# Altium footprint library STM32F4.PcbLib: 40 footprints (part 2 of 3)
Each footprint in its own frame and in the unit in brackets; x right, y up, seen from the top. Pads: shape width x height; smd on the part's side, far side on the other; paste and mask are expansions set on the pad; w line width, h text height; cw(c..) or ccw(c..) is an arc to the next point about the centre after c.
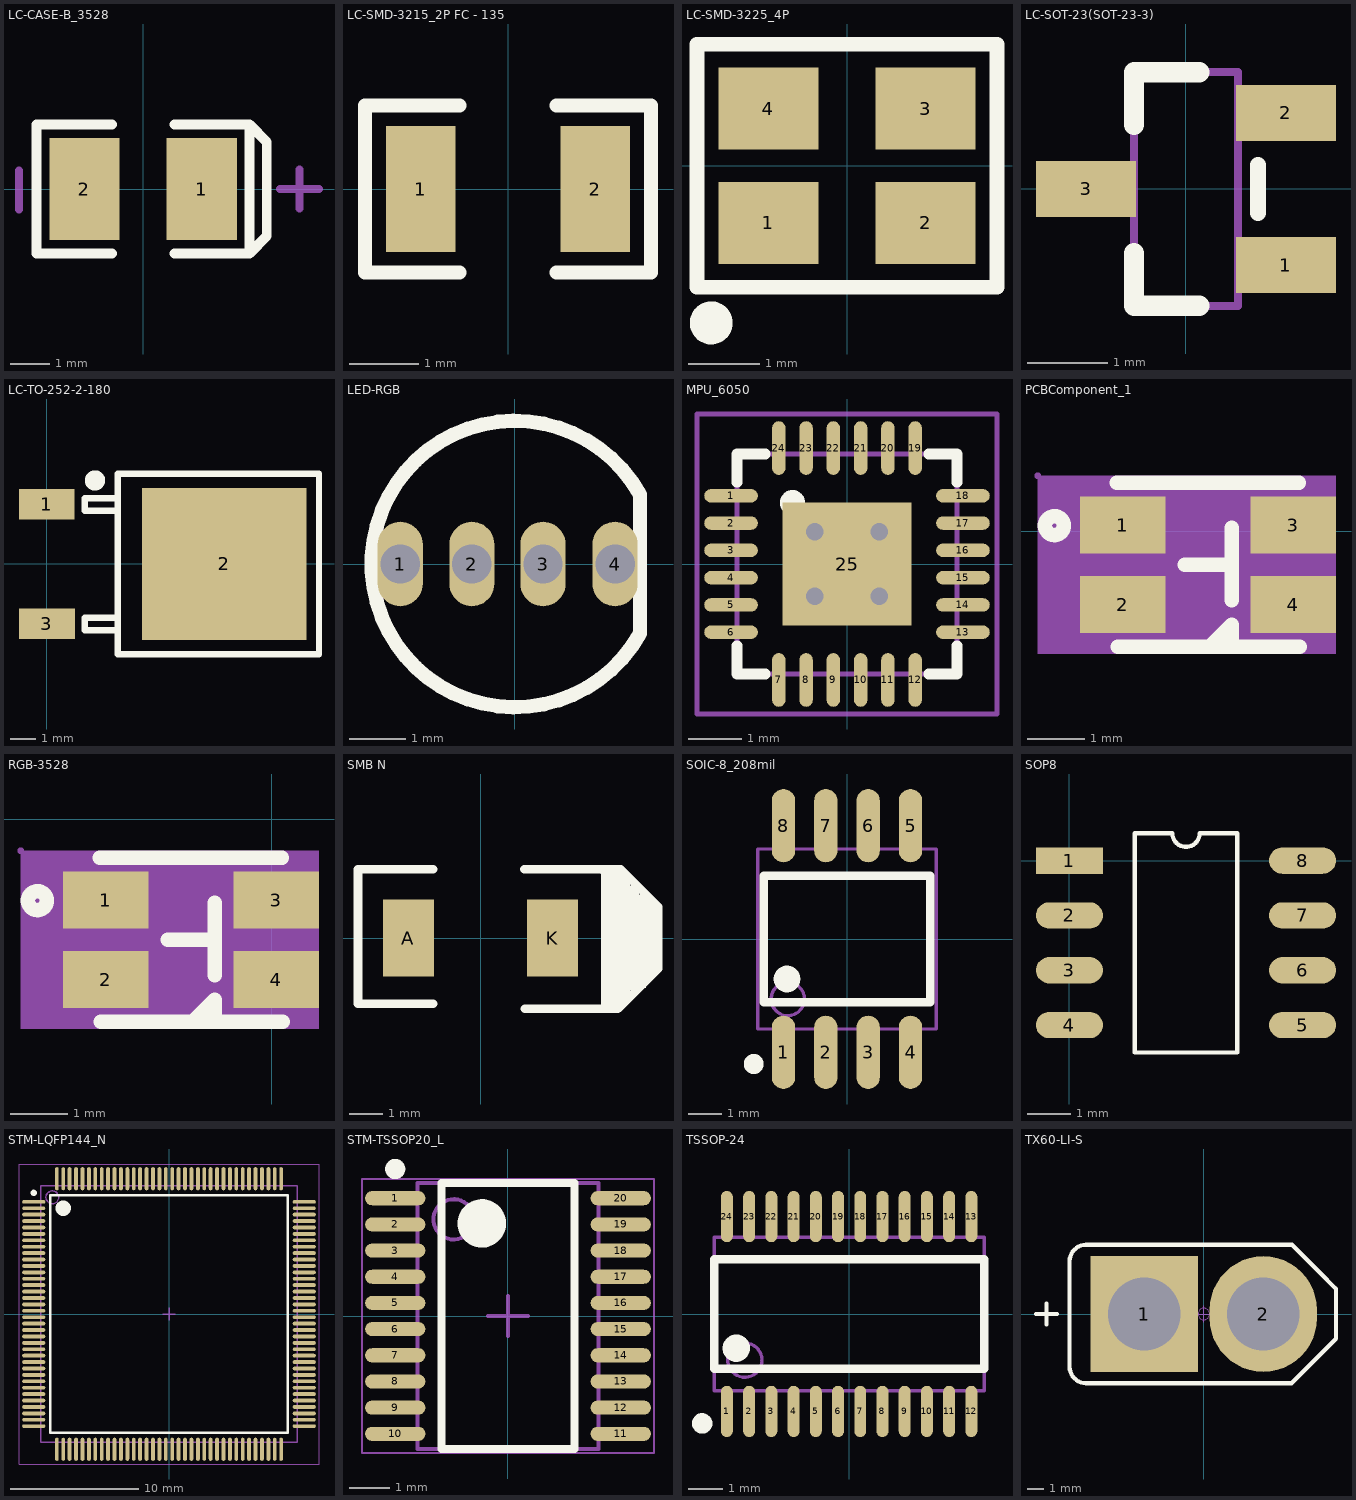
[diagram p1: the footprints below, top view; thin cyan lines are the x and y axes]

## LC-CASE-B_3528 [mm]
pads (2):
  rect 1.8x2.6 smd: 1(1.5,0) 2(-1.5,0)
Top Overlay:
  lines w0.254: -0.8,-1.65 -2.727,-1.65 -2.727,1.65 -0.8,1.65 ; 0.8,-1.65 2.727,-1.65 ; 0.8,1.65 2.727,1.65 ; 2.727,-1.65 2.727,1.65 ; 2.727,-1.65 3.163,-1.2 3.163,1.2 2.727,1.65
Mechanical 15:
  lines w0.203: -3.175,-0.525 -3.175,0.475 ; 3.5,0 4.5,0 ; 4,-0.5 4,0.5
3D body "User Library-AVX_BCASE.STEP": height 2.03, standoff 0, extent -1.85,-1.465 1.85,1.465

## LC-SMD-3215_2P FC - 135 [mm]
pads (2):
  rect 1x1.8 smd: 1(-1.25,0) 2(1.25,0)
Top Overlay:
  lines w0.2: -0.695,-1.2 -2.05,-1.2 -2.05,1.2 -0.695,1.2 ; 0.695,-1.2 2.05,-1.2 2.05,1.2 0.695,1.2

## LC-SMD-3225_4P [mm]
pads (4):
  rect 1.4x1.15 smd: 1(-1.1,-0.8) 2(1.1,-0.8) 3(1.1,0.8) 4(-1.1,0.8)
Top Overlay:
  circle w0.3: c-1.9,-2.2 r0.15
  lines w0.203: -2.1,-1.7 -2.1,1.7 2.1,1.7 2.1,-1.7 -2.1,-1.7
3D body "User Library-3225-1.STEP": height 0.61, standoff 0, extent -1.6,-1.25 1.6,1.25

## LC-SOT-23(SOT-23-3) [mm]
pads (3):
  rect 1.25x0.7 smd: 1(1.25,-0.95) 2(1.25,0.95) 3(-1.25,0)
Top Overlay:
  lines w0.2: 0.9,-0.3 0.9,0.3
  lines w0.254: -0.65,-0.8 -0.65,-1.46 0.165,-1.46 ; 0.165,1.46 -0.65,1.46 ; -0.65,0.8 -0.65,1.46 ; -0.65,0.8 -0.65,1.46 ; -0.65,0.8 -0.65,1.46
Mechanical 13:
  lines w0.1: -0.65,-1.46 -0.65,1.46 ; -0.65,-1.46 0.65,-1.46 ; -0.65,-1.46 0.65,-1.46 ; -0.65,-1.46 -0.65,1.46 ; -0.65,-1.46 0.65,-1.46 ; -0.65,-1.46 -0.65,1.46 ; -0.65,1.46 0.65,1.46 ; -0.65,1.46 0.65,1.46 ; -0.65,1.46 0.65,1.46 ; 0.65,-1.46 0.65,1.46 ; 0.65,-1.46 0.65,1.46 ; 0.65,-1.46 0.65,1.46
3D body "SOT-23.step": height 1.3, standoff 0, extent -1.5,-1.5 1.5,1.5

## LC-TO-252-2-180 [mm] "180度编带包装"
pads (3):
  rect 2.2x1.2 smd: 1(0,2.361) 3(0.004,-2.361)
  rect 6.5x6 smd: 2(7,0)
Top Overlay:
  circle w0.4: c1.9,3.3 r0.2
  lines w0.254: 2.8,2.1 1.5,2.1 1.5,2.6 2.8,2.6 ; 2.804,-2.623 1.504,-2.623 1.504,-2.123 2.804,-2.123 ; 2.8,-3.573 10.75,-3.573 10.75,3.573 2.8,3.573 2.8,-3.573
3D body "TO-252.STEP": height 2.44, standoff 0.03, extent -0.2,-3.27 9.738,3.27

## LED-RGB [mm] "三基色二极管"
height 6
pads (4):
  oval 0.8x1.5 hole 0.7: 1(-2.032,0) 2(-0.762,0) 3(0.5,0) 4(1.778,0)
Top Overlay:
  lines w0.254: 2.22,-1.234 cw(c0,0) 2.22,1.234 2.22,-1.234

## MPU_6050 [mm] "6050陀螺仪 QFN, 24-Leads, Body 4.1x4.1mm (max), Pitch 0.50mm, IPC Medium Density"
height 0.9
pads (25):
  oval 1x0.25 smd: 1(-2.159,1.27) 2(-2.159,0.762) 3(-2.159,0.254) 4(-2.159,-0.254) 5(-2.159,-0.762) 6(-2.159,-1.27) 13(2.159,-1.27) 14(2.159,-0.762) 15(2.159,-0.254) 16(2.159,0.254) 17(2.159,0.762) 18(2.159,1.27)
  oval 0.25x1 smd: 7(-1.27,-2.159) 8(-0.762,-2.159) 9(-0.254,-2.159) 10(0.254,-2.159) 11(0.762,-2.159) 12(1.27,-2.159) 19(1.27,2.159) 20(0.762,2.159) 21(0.254,2.159) 22(-0.254,2.159) 23(-0.762,2.159) 24(-1.27,2.159)
  rect 2.4x2.3 smd: 25(0,0)
via 0.6,-0.6 diameter 0.66 hole 0.33
via -0.6,-0.6 diameter 0.66 hole 0.33
via 0.6,0.6 diameter 0.66 hole 0.33
via -0.6,0.6 diameter 0.66 hole 0.33
Top Overlay:
  circle w0.25: c-1.016,1.143 r0.109
  lines w0.2: -2.05,-1.525 -2.05,-2.05 -1.525,-2.05 ; -2.05,1.525 -2.05,2.05 -1.525,2.05 ; 1.525,-2.05 2.05,-2.05 2.05,-1.525 ; 1.525,2.05 2.05,2.05 2.05,1.525
Mechanical 13:
  lines w0.1: -2.05,-2.05 2.05,-2.05 2.05,2.05 -2.05,2.05 -2.05,-2.05
Mechanical 15:
  lines w0.1: 0,-0.5 0,0.5 ; -2.794,-2.794 2.794,-2.794 2.794,2.794 -2.794,2.794 -2.794,-2.794
3D body: height 0.9, standoff 0.02, extent -2.05,-2.068 2.05,2.032

## PCBComponent_1 [mm]
pads (4):
  rect 1.5x1 smd: 1(-4.192,0.108) 2(-4.192,-1.292) 3(-1.192,0.108) 4(-1.192,-1.292)
Top Overlay:
  circle w0.254: c-5.392,0.098 r0.166
  lines w0.254: -4.292,0.848 -1.092,0.848 ; -4.282,-2.032 -1.082,-2.032 ; -3.102,-0.593 -2.272,-0.593 ; -2.713,-2.032 -2.662,-2.032 -2.272,-1.642 -2.272,-2.032 ; -2.272,-1.212 -2.272,0.058
Mechanical 4:
  region: -5.685,0.975 -0.442,0.975 -0.442,-2.159 -5.685,-2.159
Mechanical 5:
  region: -1.942,-1.792 -1.942,-0.792 -0.442,-0.792 -0.442,-1.792
  region: -4.942,-1.792 -4.942,-0.792 -3.442,-0.792 -3.442,-1.792
  region: -1.942,-0.392 -1.942,0.608 -0.442,0.608 -0.442,-0.392
  region: -4.942,-0.392 -4.942,0.608 -3.442,0.608 -3.442,-0.392
Mechanical 6:
  circle w0.06: c-5.685,0.975 r0.03
Mechanical 15:
  lines w0.003: -3.104,-0.099 -3.053,-0.048

## RGB-3528 [mm]
pads (4):
  rect 1.5x1 smd: 1(-2.922,-1.416) 2(-2.922,-2.816) 3(0.078,-1.416) 4(0.078,-2.816)
Top Overlay:
  circle w0.254: c-4.122,-1.426 r0.166
  lines w0.254: -3.022,-0.676 0.178,-0.676 ; -3.012,-3.556 0.188,-3.556 ; -1.832,-2.117 -1.002,-2.117 ; -1.443,-3.556 -1.392,-3.556 -1.002,-3.166 -1.002,-3.556 ; -1.002,-2.736 -1.002,-1.466
Mechanical 4:
  region: -4.415,-0.549 0.828,-0.549 0.828,-3.683 -4.415,-3.683
Mechanical 5:
  region: -0.672,-3.316 -0.672,-2.316 0.828,-2.316 0.828,-3.316
  region: -3.672,-3.316 -3.672,-2.316 -2.172,-2.316 -2.172,-3.316
  region: -0.672,-1.916 -0.672,-0.916 0.828,-0.916 0.828,-1.916
  region: -3.672,-1.916 -3.672,-0.916 -2.172,-0.916 -2.172,-1.916
Mechanical 6:
  circle w0.06: c-4.415,-0.549 r0.03
Mechanical 15:
  lines w0.003: -1.834,-1.623 -1.783,-1.572

## SMB N [mm]
pads (2):
  rect 1.52x2.3 smd: A(-2.159,0) K(2.141,0)
Top Overlay:
  rectangle: 3.708,-2.108 4.089,1.956
  rectangle: 4.089,-1.981 4.217,1.956
  rectangle: 4.217,-1.864 4.333,1.956
  rectangle: 4.333,-1.864 4.442,1.781
  rectangle: 4.597,-1.482 4.716,1.626
  rectangle: 4.369,-1.565 4.632,1.575
  rectangle: 4.597,-1.482 4.924,1.299
  rectangle: 4.674,-1.092 5.283,0.94
  rectangle: 4.882,0.737 5.055,1.341
  rectangle: 5.032,0.737 5.055,1.191
  rectangle: 4.882,0.737 5.207,1.016
  lines w0.254: -1.415,-1.956 -3.658,-1.956 -3.658,2.057 -1.41,2.057 ; 1.298,2.057 3.607,2.057 ; 1.316,-2.108 3.708,-2.108 ; 3.607,2.057 3.708,1.956 3.708,-2.108 ; 3.607,2.057 4.166,2.057 5.207,1.016 5.283,0.94 5.283,-0.914 4.089,-2.108 3.708,-2.108
3D body "SW3dPS-DO-214AA SMB.STEP": height 2.3, standoff 0, extent -2.7,-1.822 2.7,1.778

## SOIC-8_208mil [mm]
pads (8):
  oval 0.7x2.2 smd: 1(-1.905,-3.4) 2(-0.635,-3.4) 3(0.635,-3.4) 4(1.905,-3.4) 5(1.905,3.4) 6(0.635,3.4) 7(-0.635,3.4) 8(-1.905,3.4)
Top Overlay:
  circle w0.4: c-1.8,-1.2 r0.2
  circle w0.3: c-2.797,-3.75 r0.15
  lines w0.254: -2.5,-1.9 2.5,-1.9 2.5,1.9 -2.5,1.9 -2.5,-1.9
Mechanical 13:
  circle w0.1: c-1.775,-1.8 r0.5
  lines w0.1: -2.675,-2.7 2.675,-2.7 2.675,2.7 -2.675,2.7 -2.675,-2.7

## SOP8 [mil]
pads (8):
  rect 61x24 smd: 1(0,0)
  oval 61x24 smd: 2(0,-50) 3(0,-100) 4(0,-150) 5(212.6,-150) 6(212.6,-100) 7(212.6,-50) 8(212.6,0)
Top Overlay:
  lines w4: 59.5,-175 153.1,-175 153.1,25 118.8,25 cw(c106.3,25) 93.8,25 59.5,25 59.5,-175

## STM-LQFP144_N [mm] "Thin QFP, 144-Leads, Body 20x20mm, Pitch 0.5mm, IPC Medium Density"
height 1.6
pads (144):
  oval 1.8x0.3 smd: 1(-10.55,8.75) 2(-10.55,8.25) 3(-10.55,7.75) 4(-10.55,7.25) 5(-10.55,6.75) 6(-10.55,6.25) 7(-10.55,5.75) 8(-10.55,5.25) 9(-10.55,4.75) 10(-10.55,4.25) 11(-10.55,3.75) 12(-10.55,3.25) 13(-10.55,2.75) 14(-10.55,2.25) 15(-10.55,1.75) 16(-10.55,1.25) 17(-10.55,0.75) 18(-10.55,0.25) 19(-10.55,-0.25) 20(-10.55,-0.75) 21(-10.55,-1.25) 22(-10.55,-1.75) 23(-10.55,-2.25) 24(-10.55,-2.75) 25(-10.55,-3.25) 26(-10.55,-3.75) 27(-10.55,-4.25) 28(-10.55,-4.75) 29(-10.55,-5.25) 30(-10.55,-5.75) 31(-10.55,-6.25) 32(-10.55,-6.75) 33(-10.55,-7.25) 34(-10.55,-7.75) 35(-10.55,-8.25) 36(-10.55,-8.75) 73(10.55,-8.75) 74(10.55,-8.25) 75(10.55,-7.75) 76(10.55,-7.25) 77(10.55,-6.75) 78(10.55,-6.25) 79(10.55,-5.75) 80(10.55,-5.25) 81(10.55,-4.75) 82(10.55,-4.25) 83(10.55,-3.75) 84(10.55,-3.25) 85(10.55,-2.75) 86(10.55,-2.25) 87(10.55,-1.75) 88(10.55,-1.25) 89(10.55,-0.75) 90(10.55,-0.25) 91(10.55,0.25) 92(10.55,0.75) 93(10.55,1.25) 94(10.55,1.75) 95(10.55,2.25) 96(10.55,2.75) 97(10.55,3.25) 98(10.55,3.75) 99(10.55,4.25) 100(10.55,4.75) 101(10.55,5.25) 102(10.55,5.75) 103(10.55,6.25) 104(10.55,6.75) 105(10.55,7.25) 106(10.55,7.75) 107(10.55,8.25) 108(10.55,8.75)
  oval 0.3x1.8 smd: 37(-8.75,-10.55) 38(-8.25,-10.55) 39(-7.75,-10.55) 40(-7.25,-10.55) 41(-6.75,-10.55) 42(-6.25,-10.55) 43(-5.75,-10.55) 44(-5.25,-10.55) 45(-4.75,-10.55) 46(-4.25,-10.55) 47(-3.75,-10.55) 48(-3.25,-10.55) 49(-2.75,-10.55) 50(-2.25,-10.55) 51(-1.75,-10.55) 52(-1.25,-10.55) 53(-0.75,-10.55) 54(-0.25,-10.55) 55(0.25,-10.55) 56(0.75,-10.55) 57(1.25,-10.55) 58(1.75,-10.55) 59(2.25,-10.55) 60(2.75,-10.55) 61(3.25,-10.55) 62(3.75,-10.55) 63(4.25,-10.55) 64(4.75,-10.55) 65(5.25,-10.55) 66(5.75,-10.55) 67(6.25,-10.55) 68(6.75,-10.55) 69(7.25,-10.55) 70(7.75,-10.55) 71(8.25,-10.55) 72(8.75,-10.55) 109(8.75,10.55) 110(8.25,10.55) 111(7.75,10.55) 112(7.25,10.55) 113(6.75,10.55) 114(6.25,10.55) 115(5.75,10.55) 116(5.25,10.55) 117(4.75,10.55) 118(4.25,10.55) 119(3.75,10.55) 120(3.25,10.55) 121(2.75,10.55) 122(2.25,10.55) 123(1.75,10.55) 124(1.25,10.55) 125(0.75,10.55) 126(0.25,10.55) 127(-0.25,10.55) 128(-0.75,10.55) 129(-1.25,10.55) 130(-1.75,10.55) 131(-2.25,10.55) 132(-2.75,10.55) 133(-3.25,10.55) 134(-3.75,10.55) 135(-4.25,10.55) 136(-4.75,10.55) 137(-5.25,10.55) 138(-5.75,10.55) 139(-6.25,10.55) 140(-6.75,10.55) 141(-7.25,10.55) 142(-7.75,10.55) 143(-8.25,10.55) 144(-8.75,10.55)
Top Overlay:
  circle w0.6: c-8.25,8.25 r0.3
  circle w0.25: c-10.55,9.45 r0.125
  lines w0.2: -9.25,-9.25 9.25,-9.25 9.25,9.25 -9.25,9.25 -9.25,-9.25
Mechanical 13:
  circle w0.1: c-9.1,9.1 r0.5
  lines w0.1: -10,-10 10,-10 10,10 -10,10 -10,-10
Mechanical 15:
  lines w0.05: -11.7,-11.7 11.7,-11.7 11.7,11.7 -11.7,11.7 -11.7,-11.7
  lines w0.1: -0.5,0 0.5,0 ; 0,-0.5 0,0.5
3D body: height 1.6, standoff 0.05, extent -10,-10 10,10

## STM-TSSOP20_L [mm] "SOP, 20-Leads, Body 6.6x4.5mm, Pitch 0.65mm, IPC High Density"
height 1.2
pads (20):
  oval 1.5x0.35 smd: 1(-2.8,2.925) 2(-2.8,2.275) 3(-2.8,1.625) 4(-2.8,0.975) 5(-2.8,0.325) 6(-2.8,-0.325) 7(-2.8,-0.975) 8(-2.8,-1.625) 9(-2.8,-2.275) 10(-2.8,-2.925) 11(2.8,-2.925) 12(2.8,-2.275) 13(2.8,-1.625) 14(2.8,-0.975) 15(2.8,-0.325) 16(2.8,0.325) 17(2.8,0.975) 18(2.8,1.625) 19(2.8,2.275) 20(2.8,2.925)
Top Overlay:
  circle w0.25: c-2.8,3.65 r0.125
  circle w0.6: c-0.65,2.3 r0.3
  lines w0.2: -1.65,-3.3 -1.65,3.3 1.65,3.3 1.65,-3.3 -1.65,-3.3
Mechanical 13:
  circle w0.1: c-1.35,2.4 r0.5
  lines w0.1: -2.25,-3.3 -2.25,3.3 2.25,3.3 2.25,-3.3 -2.25,-3.3
Mechanical 15:
  lines w0.05: -3.625,-3.4 -3.625,3.4 3.625,3.4 3.625,-3.4 -3.625,-3.4
  lines w0.1: -0.5,0 0.5,0 ; 0,-0.5 0,0.5
3D body: height 1.2, standoff 0.05, extent -2.25,-3.3 2.25,3.3

## TSSOP-24 [mm]
pads (24):
  oval 0.35x1.5 smd: 1(-3.575,-2.85) 2(-2.925,-2.85) 3(-2.275,-2.85) 4(-1.625,-2.85) 5(-0.975,-2.85) 6(-0.325,-2.85) 7(0.325,-2.85) 8(0.975,-2.85) 9(1.625,-2.85) 10(2.275,-2.85) 11(2.925,-2.85) 12(3.575,-2.85) 13(3.575,2.85) 14(2.925,2.85) 15(2.275,2.85) 16(1.625,2.85) 17(0.975,2.85) 18(0.325,2.85) 19(-0.325,2.85) 20(-0.975,2.85) 21(-1.625,2.85) 22(-2.275,2.85) 23(-2.925,2.85) 24(-3.575,2.85)
Top Overlay:
  circle w0.4: c-3.3,-1 r0.2
  circle w0.3: c-4.3,-3.2 r0.15
  lines w0.254: -3.95,-1.6 3.95,-1.6 3.95,1.6 -3.95,1.6 -3.95,-1.6
Mechanical 13:
  circle w0.1: c-3.05,-1.35 r0.5
  lines w0.1: -3.95,-2.25 3.95,-2.25 3.95,2.25 -3.95,2.25 -3.95,-2.25

## TX60-LI-S [mm] "长：16mm，宽：8.2mm，高：16mm"
pads (2):
  rect 6.5x7 hole 4.4: 1(-3.6,0)
  oval 6.5x7 hole 4.4: 2(3.6,0)
Top Overlay:
  lines w0.254: -10.16,0 -8.89,0 ; -9.525,-0.635 -9.525,0.635 ; -8.128,-3.191 ccw(c-7.128,-3.191) -7.128,-4.191 5.309,-4.191 8,-1.5 8,1.525 6.985,2.54 5.334,4.191 -7.128,4.191 ccw(c-7.128,3.191) -8.128,3.191 -8.128,-3.191
Mechanical 15:
  circle w0.05: c0,0 r0.35
  lines w0.05: -0.5,0 0.5,0 ; 0,-0.5 0,0.5
3D body "TX60-LI-S.STEP": height 16.05, standoff -2.25, extent -8,-4.1 8,4.1